# Altium footprint library Pulse.PcbLib: 1 footprints
Each footprint in its own frame and in the unit in brackets; x right, y up, seen from the top. Pads: shape width x height; smd on the part's side, far side on the other; paste and mask are expansions set on the pad; w line width, h text height; cw(c..) or ccw(c..) is an arc to the next point about the centre after c.
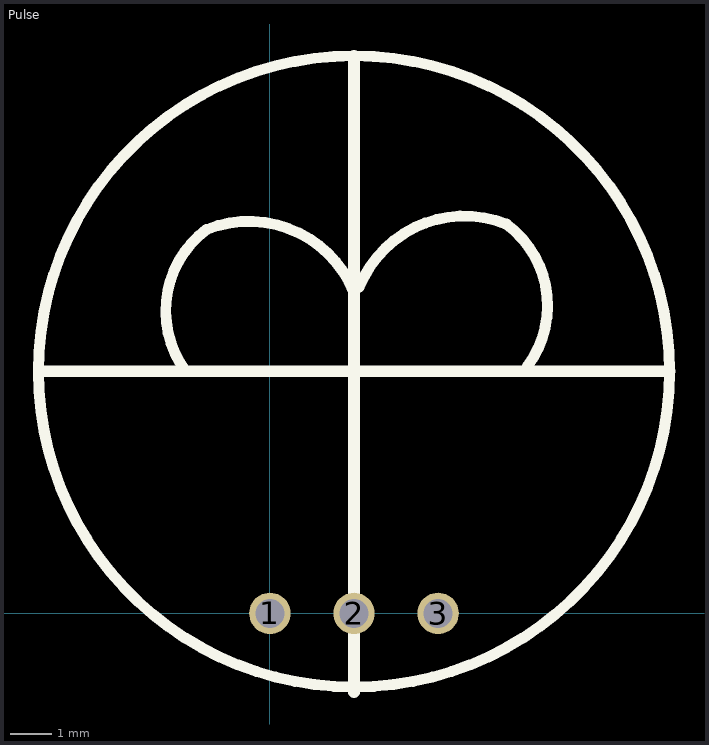
[diagram p0: the footprint, top view; thin cyan lines are the x and y axes]

## Pulse [mm]
pads (3):
  round 1 hole 0.7: 1(0,0) 2(2.032,0) 3(4.064,0)
Top Overlay:
  circle w0.262: c2.032,5.842 r7.621
  lines w0.262: -2.032,5.842 cw(c-0.064,7.302) -1.524,9.271 cw(c-0.508,6.731) 2.032,7.747 ; 2.159,7.874 cw(c4.699,6.858) 5.715,9.398 cw(c4.255,7.429) 6.223,5.969
  lines w0.278: -5.461,5.842 9.652,5.842 2.032,5.842 ; 2.032,-1.905 2.032,-1.651 2.032,5.842 ; 2.032,13.462 2.032,5.842